# EAGLE library part WE-TVS-SS_DFN3810-9L_824014883 (library Wurth_EMC Components_WE-TVS)
WE-TVS TVS Diode – Super Speed Series Characteristics Fast turn-on Low clamping voltage Very low capacitance Rail to Rail protection Small package Epoxy flame resistant UL94-V0 Applications Super Speed data lines HDMI 1.3/1.4/2.0, DVI DisplayPort USB 3.1 Gen 1 (5Gb/s) SATA and eSATA GBit LAN Thunderbolt LVDS ESD protection in accordance with EN 61000-4-2 – 8 kV contact discharge – 15 kV air discharge SS = Super Speed <https://www.we-online.com/catalog/media/o106434v209%20Family_WE-TVS-SuperSpeed.jpg> Details see: https://www.we-online.com/catalog/en/WE-TVS-SS Updated by Ella Wu 2019-07-12 2019 (C) Wurth Elektronik
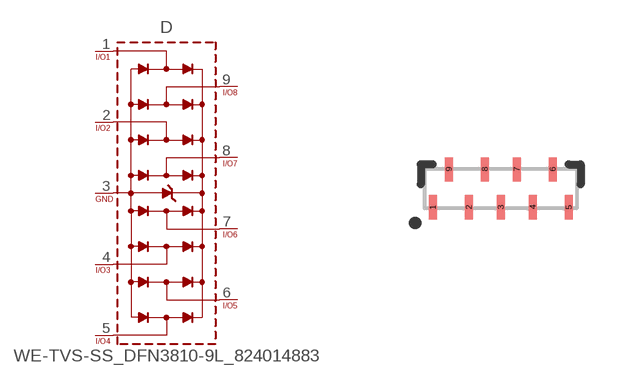
[diagram p14: symbol with the pads of WE-TVS_DFN3810-9L; footprint WE-TVS_DFN3810-9L]

Designator prefix D

## WE-TVS-SS_DFN3810-9L_824014883 (C-CH: 0.5pF; CHANNELS: 8; DATASHEET-URL: https://www.we-online.com/catalog/datasheet/824014883.pdf; IPEAK: 5A; MOUNT: SMT; PART-NUMBER: 824014883; VALUE: 3.3Vdc; VBR: 4.5V)  [WE-TVS_DFN3810-9L]
1  1  pas
2  2  pas
3  GND  pas
4  4  pas
5  5  pas
6  6  pas
7  7  pas
8  8  pas
9  9  pas

## Footprint WE-TVS_DFN3810-9L (pad centres in mm)
WE-TVS TVS Diode Size: DFN3810-9L L X W X H = 3.8mm X 1mm X 0.5mm
smd 0.2 x 0.6: 1 -1.7,-0.475; 2 -0.8,-0.475; 3 0,-0.475; 4 0.8,-0.475; 5 1.7,-0.475; 6 1.3,0.475; 7 0.4,0.475; 8 -0.4,0.475; 9 -1.3,0.475